# Altium integrated library FSV20100V.IntLib: 1 symbol
Pins are listed as number, name and electrical type; pins without a type are passive.

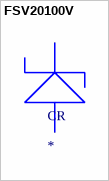
[diagram p0: symbol FSV20100V]

## FSV20100V
designator CR
Diode Schottky 100V 20A Surface Mount TO-277-3; MF: ON Semiconductor; MP: FSV20100V; Availability: Unavailable; SnapEDA_Link: https://www.snapeda.com/parts/FSV20100V/ON%20Semiconductor/view-part/2504465/?ref=snap; Value: *; Price: None; Package: TO-277 ON Semiconductor
footprint TO-277
pins: 1 P$2 (io), 2 P$2 (io), 3 P$1 (io)